# Altium schematic symbol library B1212S-3WR2.SchLib: 1 symbol
Pins are listed as number, name and electrical type; pins without a type are passive.

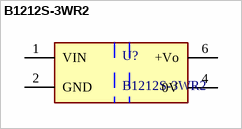
[diagram p0: symbol B1212S-3WR2]

## B1212S-3WR2
designator U?
footprint B1212S-3WR2
pins: 1 VIN (power), 2 GND (power), 4 0V (power), 6 +Vo (power)